# Altium schematic symbol library BQ24202.SchLib: 1 symbol
Pins are listed as number, name and electrical type; pins without a type are passive.

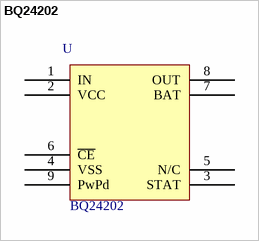
[diagram p0: symbol BQ24202]

## BQ24202
designator U  value BQ24202  (hidden comment: *)
Manufacturer Code: BQ24202DGN; Manufacturer: Texas Instruments; Farnell Code: 8407932; Unit Price: 2.47 €
footprint HSSOP8
pins: 1 IN, 2 VCC, 3 STAT, 4 VSS, 5 N/C, 6 ~{CE}, 7 BAT, 8 OUT, 9 PwPd